# Altium schematic symbol library connector.SchLib: 12 symbols
Pins are listed as number, name and electrical type; pins without a type are passive.

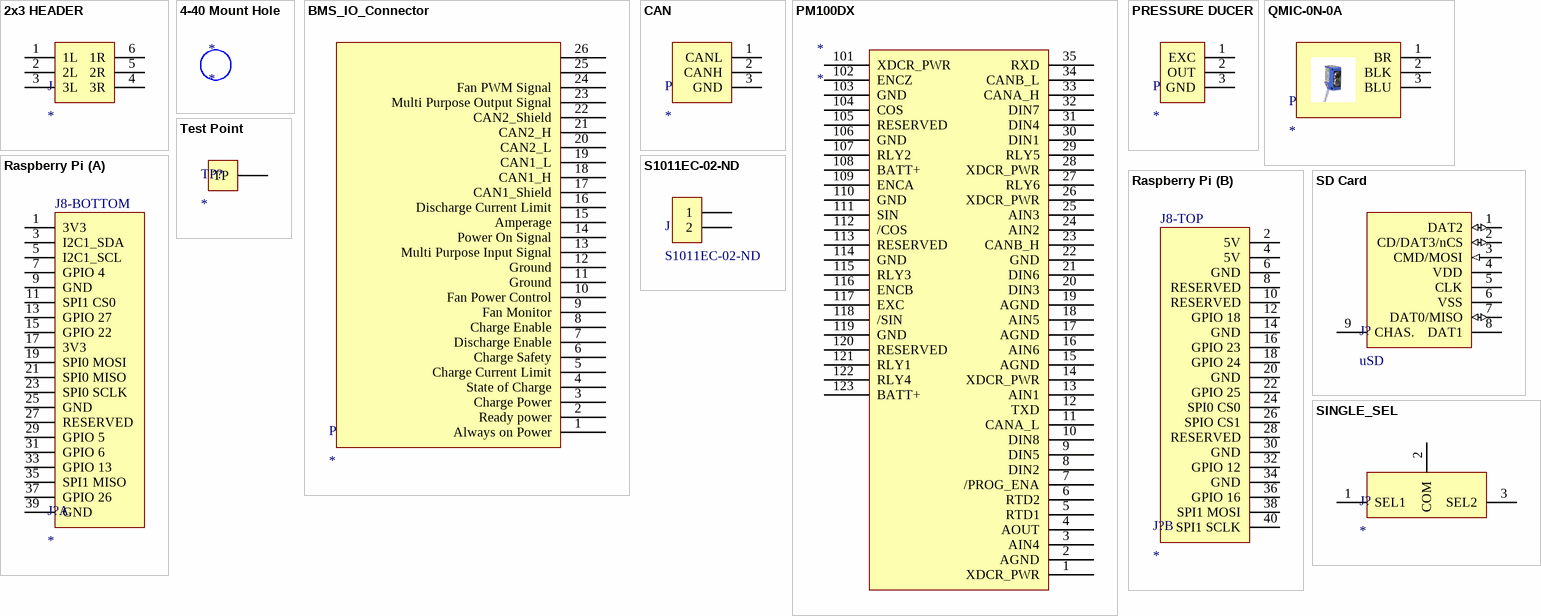
[diagram p0: symbols 2x3 HEADER to Test Point]

## 2x3 HEADER
designator J
footprint DIP6
pins: 1 1L, 2 2L, 3 3L, 4 3R, 5 2R, 6 1R

## 4-40 Mount Hole
designator *
footprint 4-40 Mount Hole

## BMS_IO_Connector
designator P
pins: 1 Always on Power, 2 Ready power, 3 Charge Power, 4 State of Charge, 5 Charge Current Limit, 6 Charge Safety, 7 Discharge Enable, 8 Charge Enable, 9 Fan Monitor, 10 Fan Power Control, 11 Ground, 12 Ground, 13 Multi Purpose Input Signal, 14 Power On Signal, 15 Amperage, 16 Discharge Current Limit, 17 CAN1_Shield, 18 CAN1_H, 19 CAN1_L, 20 CAN2_L, 21 CAN2_H, 22 CAN2_Shield, 23 Multi Purpose Output Signal, 24 Fan PWM Signal, 25, 26

## CAN
designator P
footprint 3POS TERM BLOCK (5mm Pitch)
pins: 1 CANL, 2 CANH, 3 GND

## PM100DX
designator *
ComponentLink1Description: Datasheet; ComponentLink1URL: http://www.rinehartmotion.com/uploads/5/1/3/0/51309945/pm100-150datasheet_1.pdf
pins: 1 XDCR_PWR "5V @ 80mA max", 2 AGND "Analog Ground,Accel Pedal GND", 3 AIN4 "Analog Input 4 0-5Vfs", 4 AOUT "Analog Output 0-5V", 5 RTD1 "RTD Input(PT 100 or PT 1000)", 6 RTD2 "RTD Input(PT 100 or PT 1000)", 7 /PROG_ENA "Serial Boot Loader enable", 8 DIN2 "Digital iNPUT 2-stg, Reverse Enable Switch", 9 DIN5 "Digital Input 5 - STB, Ignition Input(if used)", 10 DIN8 "Digital input 8 - STB, available fore user-defined function", 11 CANA_L "CAN Channel A Low", 12 TXD "RS-232 Transmit", 13 AIN1 "Analog Input 1 0-5 Vfs, Accel Pedal Wiper", 14 XDCR_PWR "5V@80mA max,Spare 5V transducer power", 15 AGND "Analog Ground", 16 AIN6 "Analog Input 6 0-5Vfs,Available for user defined function", 17 AGND "Analog Ground", 18 AIN5 "Analog Input 5 0-5Vfs,Available for user-defined functinality.", 19 AGND "Analog Ground", 20 DIN3 "Digital Input 3 - STG, Brake Switch", 21 DIN6 "Digital Input 6 - STG, Start Input(if used)", 22 GND "gnd", 23 CANB_H "CAN Channel b Hi", 24 AIN2 "Analog Input 2 0-5Vfs, Motor Temperature Sensor", 25 AIN3 "Analog Input 3 0-5Vfs,Brake pedal", 26 XDCR_PWR "5V@80mA max", 27 RLY6 "Hi-Side Relay Driver, Available for user-defined functionality, CAN control.", 28 XDCR_PWR "5V@80mA max,Spare 5V transducer power", 29 RLY5 "Hi-Side Relay Driver, Available for user-defined functionality, CAN control.", 30 DIN1 "Digital Input 1-STG,forward enable switch", 31 DIN4 "Digital Input 4 - STG, REGEN Disable Input", 32 DIN7 "Digital Input 7 - STB, available fore user-defined function", 33 CANA_H "CAN Channel A Hi", 34 CANB_L "CAN Channel B Low", 35 RXD "RS-232 Receive", 101 XDCR_PWR "5V@80mA max Encoder Power", 102 ENCZ "encoder channel z input(index)", 103 GND "Resolver excitation return", 104 COS "Resolver Cosine Winding+", 105 RESERVED "do not connect", 106 GND "Main 12V return, Chassis GND", 107 RLY2 "Hi-Side Relay Driver,Main Relay Drive", 108 BATT+ "main 12V power source, 12V ignition power input", 109 ENCA "Encoder Channel A Input, used with induction motors", 110 GND "gnd,encoder gnd", 111 SIN "resolver sine winding +", 112 /COS "Resolver Cosine Winding -", 113 RESERVED "do not connect", 114 GND "Main 12V return, Chassis GND", 115 RLY3 "Lo-Side Relay Driver, OK Indicator Drive/12V Power Relay Drive", 116 ENCB "encoder channel B input", 117 EXC "resolver excitation output,used with PM Motors", 118 /SIN "resolver sine winding -", 119 GND "Resolver Shild GND", 120 RESERVED "do not connect", 121 RLY1 "Hi-Side Relay Driver,Pre-Charge Contactor Drive", 122 RLY4 "Lo-Side Relay Driver,Fault Indictor Drive", 123 BATT+ "Main 12V power source, 12V ignition power input"

## PRESSURE DUCER
designator P
footprint 3POS TERM BLOCK (Footprint not found)
pins: 1 EXC, 2 OUT, 3 GND

## QMIC-0N-0A
designator P
Retroreflective Sensor; ComponentLink1Description: Sensor; ComponentLink1URL: https://www.automationdirect.com/adc/Shopping/Catalog/Sensors_-z-_Encoders/Photoelectric_Sensors/DC_Rectangular/Retroreflective_(QM-z-CX-z-FE_Series)/QMIC-0N-0A; ComponentLink2Description: Datasheet; ComponentLink2URL: https://cdn.automationdirect.com/static/specs/peminirectqm.pdf
footprint 3POS TERM BLOCK (Footprint not found)
pins: 1 BR (power) "10-30VDC", 2 BLK (oc) "NPN Collector", 3 BLU (power) "Return (GND)"

## Raspberry Pi
designator J?
2x20 Header
footprint RASPBERRY PI (2x20 Header with mounting holes)
part A pins: 1 3V3, 3 I2C1_SDA, 5 I2C1_SCL, 7 GPIO 4, 9 GND, 11 SPI1 CS0, 13 GPIO 27, 15 GPIO 22, 17 3V3, 19 SPI0 MOSI, 21 SPI0 MISO, 23 SPI0 SCLK, 25 GND, 27 RESERVED, 29 GPIO 5, 31 GPIO 6, 33 GPIO 13, 35 SPI1 MISO, 37 GPIO 26, 39 GND
part B pins: 2 5V, 4 5V, 6 GND, 8 RESERVED, 10 RESERVED, 12 GPIO 18, 14 GND, 16 GPIO 23, 18 GPIO 24, 20 GND, 22 GPIO 25, 24 SPI0 CS0, 26 SPIO CS1, 28 RESERVED, 30 GND, 32 GPIO 12, 34 GND, 36 GPIO 16, 38 SPI1 MOSI, 40 SPI1 SCLK
part A text: J8-BOTTOM
part B text: J8-TOP

## S1011EC-02-ND
designator J
CONN HEADER .100" SNGL STR 2POS; ComponentLink1Description: Male- Digikey; ComponentLink1URL: https://www.digikey.com/product-detail/en/sullins-connector-solutions/PRPC002SAAN-RC/S1011EC-02-ND/2775252; ComponentLink2Description: Female - Digikey; ComponentLink2URL: https://www.digikey.com/products/en?keywords=S9001-ND
footprint S1011EC-02-ND (2 Pin Jumper)
pins: 1, 2

## SD Card
designator J?, comment uSD
footprint MICRO_SD_HOLDER
pins: 1 DAT2 (io), 2 CD/DAT3/nCS (io), 3 CMD/MOSI (in), 4 VDD (power), 5 CLK, 6 VSS, 7 DAT0/MISO (io), 8 DAT1, 9 CHAS.

## SINGLE_SEL
designator J?
footprint SEL
pins: 1 SEL1, 2 COM, 3 SEL2

## Test Point
designator TP?
footprint TESTPOINT
pins: 1 TP